# Altium schematic symbol library MCP1X0T.SchLib: 1 symbol
Pins are listed as number, name and electrical type; pins without a type are passive.

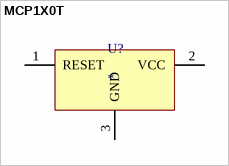
[diagram p0: symbol MCP1X0T]

## MCP1X0T
designator U?
Microcontroller Supervisory Circuit MCP130T/MCP120T
footprint SOT23-3 (SOT-23; 3 Leads; Body 3.0 x 2.5 mm, inc. leads (LxW max))
pins: 1 RESET, 2 VCC, 3 GND